# Altium integrated library 热敏光敏压敏电阻.IntLib: 1 symbol
Pins are listed as number, name and electrical type; pins without a type are passive.

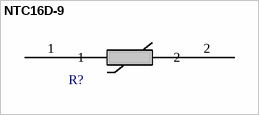
[diagram p0: symbol NTC16D-9]

## NTC16D-9
designator R?, comment NTCS0603E3103FMT  (value not drawn)
NTC16D-9
footprint 插件压敏电阻
pins: 1, 2